# Altium footprint library LCD TIC.PcbLib: 4 footprints
Each footprint in its own frame and in the unit in brackets; x right, y up, seen from the top. Pads: shape width x height; smd on the part's side, far side on the other; paste and mask are expansions set on the pad; w line width, h text height; cw(c..) or ccw(c..) is an arc to the next point about the centre after c.
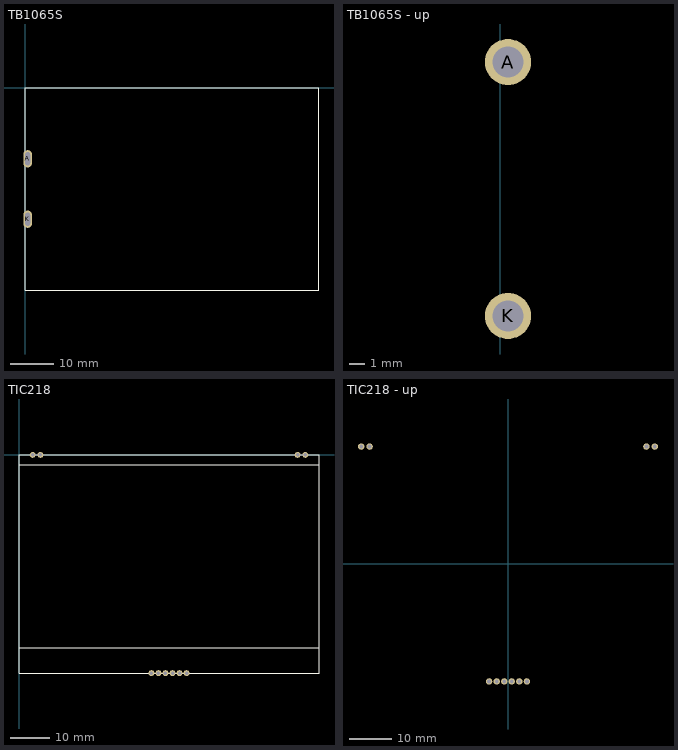
[diagram p0: the footprints below, top view; thin cyan lines are the x and y axes]

## TB1065S [mm] "Подсветка диодная для индикатора TIC218"
pads (2):
  oval 2x4 hole 1.1 slot 3 at 90 deg: A(0.5,-16.5) K(0.5,-30.5)
Top Overlay:
  lines w0.254: 0,-47 0,0 68,0 68,-47 0,-47
3D body: height 4.5, standoff 2.5, extent 0,-47 68,0
3D body: height 3, standoff 0, extent 66,-2 67.992,-0.004
3D body: height 3, standoff 0, extent 66,-47 67.992,-45.004
3D body: height 3, standoff 0, extent 0,-47 1.992,-45.004
3D body: height 3, standoff 0, extent 0,-2 1.992,-0.004
3D body: height 4, standoff 0, extent 0,-16.5 1,-14.5
3D body: height 4, standoff 0, extent 0,-33 1,-31

## TB1065S - up [mm] "Подсветка диодная для индикатора TIC218"
pads (2):
  round 3 hole 2: A(0.5,-15.5) K(0.5,-32)
3D body: height 21, standoff 19, extent 0,-47 68,0
3D body: height 19, standoff 16, extent 66,-2 67.992,-0.004
3D body: height 19, standoff 16, extent 66,-47 67.992,-45.004
3D body: height 19, standoff 16, extent 0,-47 1.992,-45.004
3D body: height 19, standoff 16, extent 0,-2 1.992,-0.004
3D body: height 19, standoff 0, extent 0,-16.5 1,-14.5
3D body: height 19, standoff 0, extent 0,-33 1,-31

## TIC218 [mm] "Индикатор ЖК 133x64  (77x56 мм)"
pads (10):
  round 1.5 hole 0.9: 1(43,-56) 2(41.2,-56) 3(39.4,-56) 4(37.6,-56) 5(35.8,-56) 6(34,-56) 7(3.5,0) 7(5.5,0) 7(71.5,0) 7(73.5,0)
Top Overlay:
  lines w0.254: 0,-49.5 77,-49.5 ; 0,-2.5 77,-2.5 ; 0,-56 77,-56 77,0 0,0 0,-56
3D body: height 6, standoff 5, extent 0,-49.5 77,-2.5
3D body: height 8, standoff 6, extent 0,-56 77,0
3D body: height 7, standoff 0, extent 33.747,-56.25 34.253,-55.743
3D body: height 7, standoff 0, extent 35.547,-56.25 36.053,-55.743
3D body: height 7, standoff 0, extent 37.347,-56.25 37.853,-55.743
3D body: height 7, standoff 0, extent 39.147,-56.25 39.653,-55.743
3D body: height 7, standoff 0, extent 40.947,-56.25 41.453,-55.743
3D body: height 7, standoff 0, extent 42.747,-56.25 43.253,-55.743
3D body: height 7, standoff 0, extent 3.247,-0.25 3.753,0.257
3D body: height 7, standoff 0, extent 5.247,-0.25 5.753,0.257
3D body: height 7, standoff 0, extent 71.247,-0.25 71.753,0.257
3D body: height 7, standoff 0, extent 73.247,-0.25 73.753,0.257

## TIC218 - up [mm] "Индикатор ЖК 133x64  (77x56 мм)"
pads (10):
  round 1.524 hole 0.9: 1(4.5,-28.05) 2(2.7,-28.05) 3(0.9,-28.05) 4(-0.9,-28.05) 5(-2.7,-28.05) 6(-4.5,-28.05) 7(-35,27.95) 7(-33,27.95) 7(33,27.95) 7(35,27.95)
3D body: height 22, standoff 0, extent 34.747,27.7 35.253,28.207
3D body: height 22, standoff 0, extent 32.747,27.7 33.253,28.207
3D body: height 22, standoff 0, extent -33.253,27.7 -32.747,28.207
3D body: height 22, standoff 0, extent -35.253,27.7 -34.747,28.207
3D body: height 22, standoff 0, extent 4.247,-28.3 4.753,-27.793
3D body: height 22, standoff 0, extent 2.447,-28.3 2.953,-27.793
3D body: height 22, standoff 0, extent 0.647,-28.3 1.153,-27.793
3D body: height 22, standoff 0, extent -1.153,-28.3 -0.647,-27.793
3D body: height 22, standoff 0, extent -2.953,-28.3 -2.447,-27.793
3D body: height 22, standoff 0, extent -4.753,-28.3 -4.247,-27.793
3D body: height 25, standoff 22, extent -38.5,-28.05 38.5,27.95